# EAGLE library part OSRAM_LRTB_GFTG (library seb)
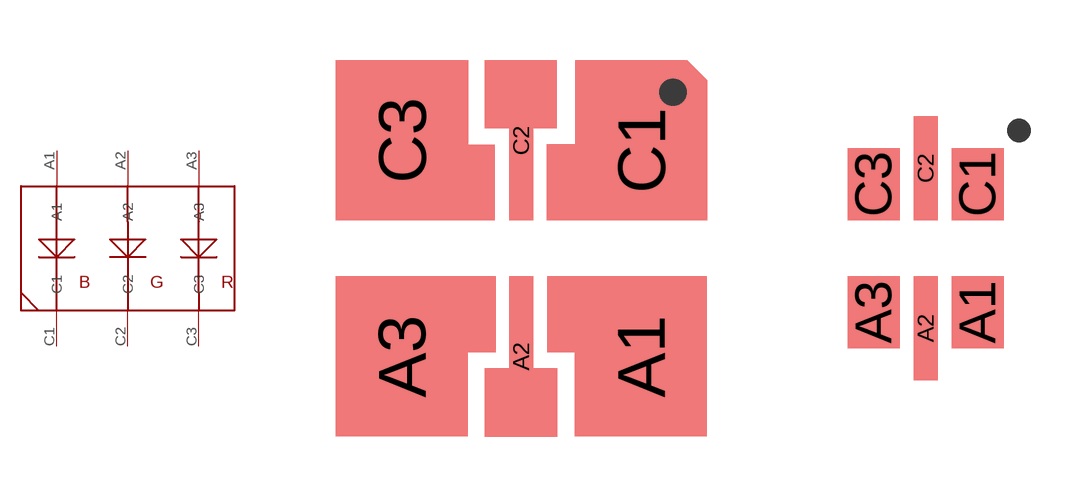
[diagram p9: symbol with the pads of PLCC-6_FIX; footprints PLCC-6_FIX, PLCC-6_SMALL]

Designator prefix D

## OSRAM_LRTB_GFTGBIG  [PLCC-6_FIX]
A1  A1
A2  A2
A3  A3
C1  C1
C2  C2
C3  C3

## OSRAM_LRTB_GFTGSMALL  [PLCC-6_SMALL]
Pads as for PLCC-6_FIX

## Footprint PLCC-6_FIX (pad centres in mm)
smd 3.302 x 4: A1 2.994,-2.7; A3 -2.986,-2.7; C3 -2.975,2.7
smd 0.6 x 4: A2 0,-2.7; C2 0,2.7
smd 3.302 x 3.5: C1 3.005,2.449

## Footprint PLCC-6_SMALL (pad centres in mm)
smd 1.3 x 1.8: A1 1.3,-1.6; A3 -1.3,-1.6; C1 1.3,1.6; C3 -1.3,1.6
smd 0.6 x 2.6: A2 0,-2; C2 0,2